# EAGLE library part SW-4WAY (library mylib)
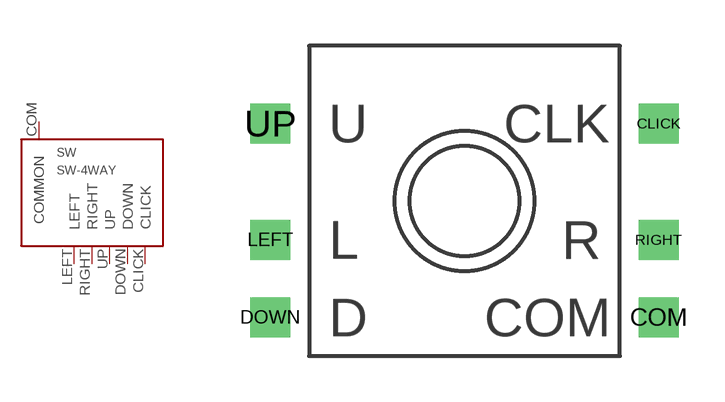
[diagram p59: symbol with the pads of SW-4WAY; footprint SW-4WAY]

Designator prefix SW

## SW-4WAY  [SW-4WAY]
CLICK  CLICK
COM  COMMON
DOWN  DOWN
LEFT  LEFT
RIGHT  RIGHT
UP  UP

## Footprint SW-4WAY (pad centres in mm)
drill 0.8 square: CLICK 12.7,5.08; COM 12.7,-1.27; DOWN 0,-1.27; LEFT 0,1.27; RIGHT 12.7,1.27; UP 0,5.08